# Altium schematic symbol library EN11-HSB.SchLib: 1 symbol
Pins are listed as number, name and electrical type; pins without a type are passive.

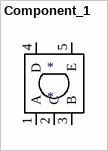
[diagram p0: symbol Component_1]

## Component_1
designator *
pins: 1 A, 2 C, 3 B, 4 D, 5 E